# Altium footprint library Seeed-OPL-Connector.PCBLIB: 183 footprints (part 2 of 12)
Each footprint in its own frame and in the unit in brackets; x right, y up, seen from the top. Pads: shape width x height; smd on the part's side, far side on the other; paste and mask are expansions set on the pad; w line width, h text height; cw(c..) or ccw(c..) is an arc to the next point about the centre after c.
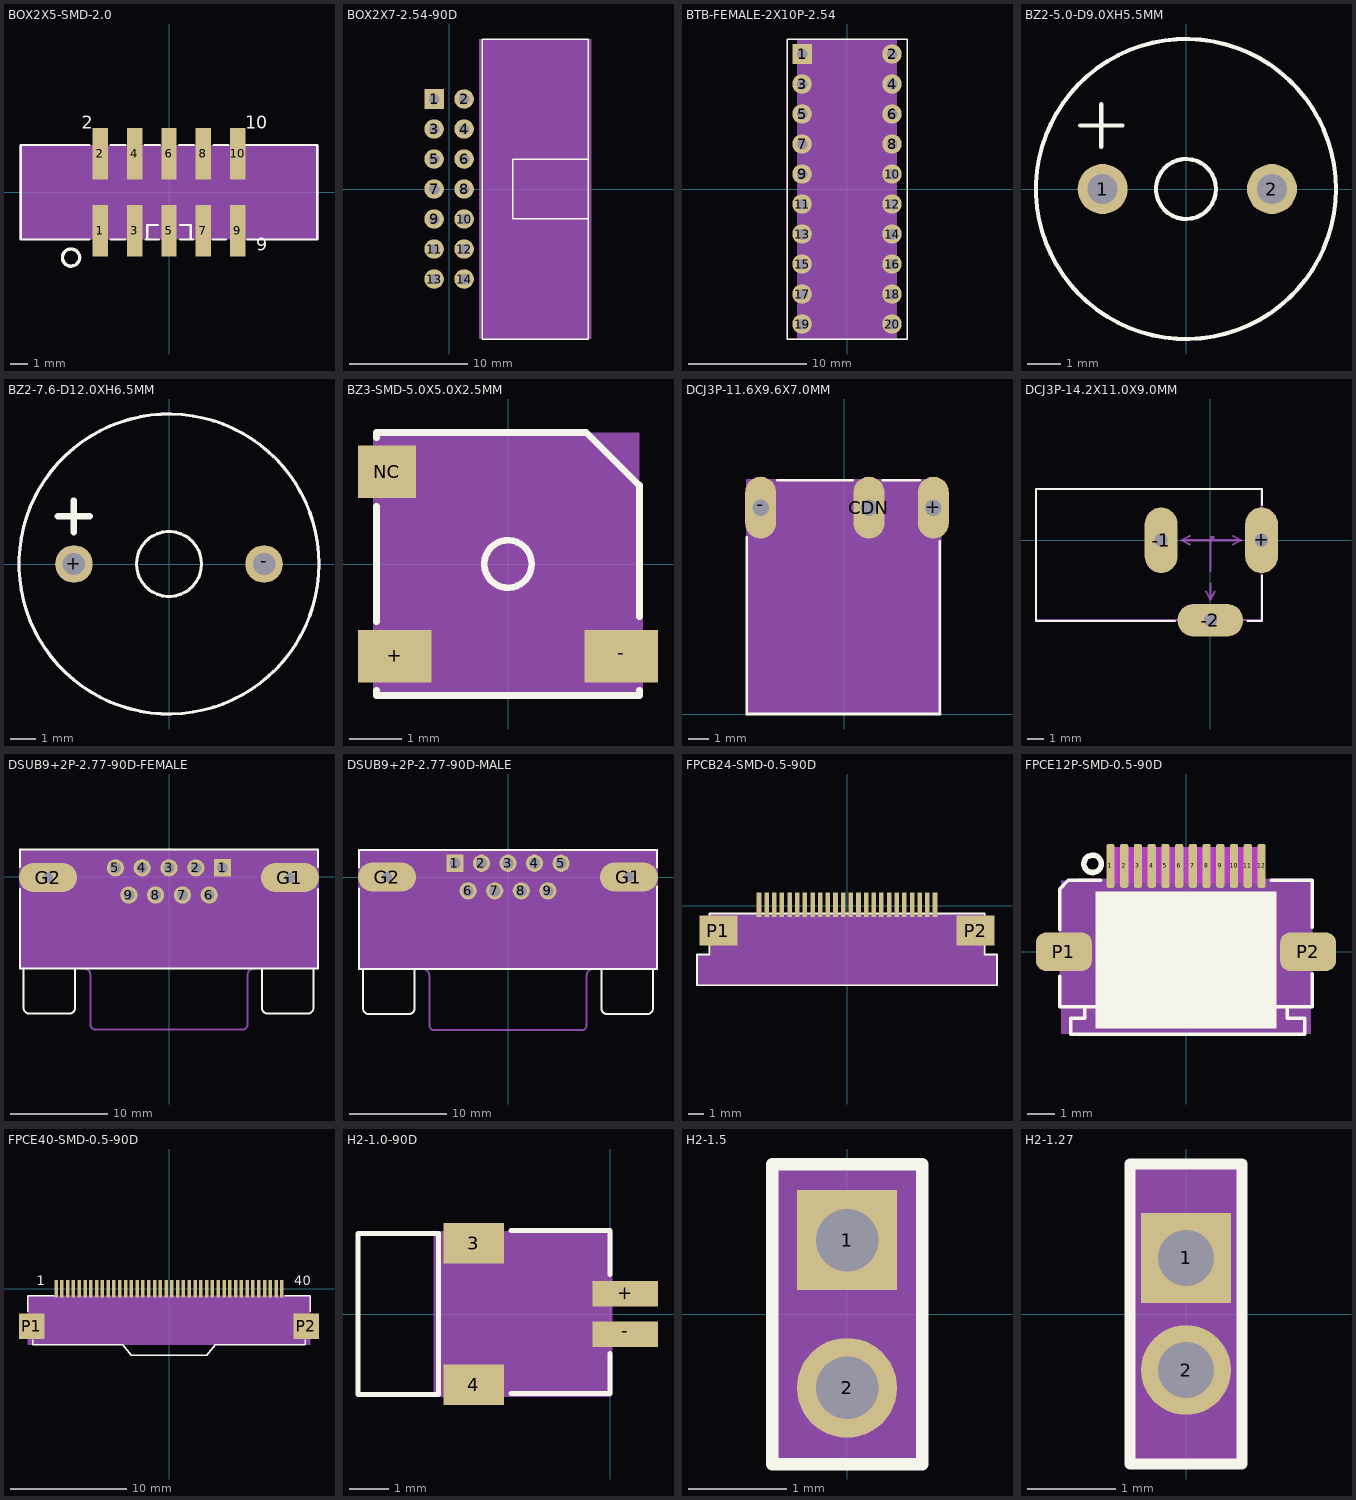
[diagram p1: the footprints below, top view; thin cyan lines are the x and y axes]

## BOX2X5-SMD-2.0 [mm]
pads (10):
  rect 0.9x3 smd: 1(-4,-2.25) 2(-4,2.25) 3(-2,-2.25) 4(-2,2.25) 5(0,-2.25) 6(0,2.25) 7(2,-2.25) 8(2,2.25) 9(4,-2.25) 10(4,2.25)
Top Overlay:
  circle w0.2: c-5.715,-3.81 r0.5
  lines w0.127: -4.645,-2.75 -8.65,-2.75 -8.65,2.75 -4.645,2.75 ; -3.41,-2.75 -2.54,-2.75 ; -3.41,2.75 -2.54,2.75 ; -1.41,2.75 -0.54,2.75 ; -1.36,-2.75 -0.59,-2.75 ; -1.27,-2.75 -1.27,-1.905 -0.635,-1.905 ; 0.59,2.75 1.46,2.75 ; 0.635,-1.905 1.27,-1.905 1.27,-2.75 ; 0.64,-2.75 1.41,-2.75 ; 2.54,-2.75 3.31,-2.75 ; 2.59,2.75 3.46,2.75 ; 4.445,2.75 8.65,2.75 8.65,-2.75 4.545,-2.75
  text "2" at -5.08,3.429 h1.26
  text "9" at 5.08,-3.683 h1.26
  text "10" at 4.445,3.429 h1.26
Mechanical 27:
  rectangle: -8.75,-2.75 8.75,2.75

## BOX2X7-2.54-90D [mil]
pads (14):
  rect 65x65 hole 35: 1(-50,300)
  round 65 hole 35: 2(50,300) 3(-50,200) 4(50,200) 5(-50,100) 6(50,100) 7(-50,0) 8(50,0) 9(-50,-100) 10(50,-100) 11(-50,-200) 12(50,-200) 13(-50,-300) 14(50,-300)
Top Overlay:
  lines w5: 464.57,-98.43 464.57,98.43 ; 464.57,-98.43 464.57,-500 110.24,-500 110.24,500 464.57,500 464.57,98.43 ; 464.57,-98.43 212.6,-98.43 212.6,98.43 464.57,98.43
Mechanical 27:
  rectangle: 100,-500 475,500

## BTB-FEMALE-2X10P-2.54 [mil]
pads (20):
  rect 65x65 hole 35: 1(-150,450)
  round 65 hole 35: 2(150,450) 3(-150,350) 4(150,350) 5(-150,250) 6(150,250) 7(-150,150) 8(150,150) 9(-150,50) 10(150,50) 11(-150,-50) 12(150,-50) 13(-150,-150) 14(150,-150) 15(-150,-250) 16(150,-250) 17(-150,-350) 18(150,-350) 19(-150,-450) 20(150,-450)
Top Overlay:
  lines w5: -200,-500 200,-500 200,500 -200,500 -200,-500
Mechanical 27:
  rectangle: -167.32,-500 167.32,500
  lines w0: -200,-500 200,-500 200,500 -200,500 -200,-500

## BZ2-5.0-D9.0XH5.5MM [mil]
pads (2):
  round 59.06 hole 35.43: 1(-98.43,0) 2(101.57,0)
Top Overlay:
  circle w5: c0,0 r177.17
  circle w5: c0,0 r35.43
  lines w5: -125,75 -75,75 ; -100,50 -100,100

## BZ2-7.6-D12.0XH6.5MM [mil]
pads (2):
  round 59.06 hole 35.43: +(-149.61,0) -(149.61,0)
Top Overlay:
  circle w5: c0,0 r236.22
  circle w5: c0,0 r51.18
  lines w10: -175,75 -150,75 ; -150,50 -150,75 ; -150,100 -150,75 ; -125,75 -150,75
Mechanical 27:
  circle w5: c0,0 r236.22

## BZ3-SMD-5.0X5.0X2.5MM [mm]
pads (3):
  rect 1.4x1 smd: +(-2.15,-1.75) -(2.15,-1.75)
  rect 1.1x1 smd: NC(-2.3,1.75)
Top Overlay:
  circle w0.127: c0,0 r0.45
  lines w0.127: -2.5,-2.4 -2.5,-2.5 2.5,-2.5 2.5,-2.4 ; -2.5,-1.1 -2.5,1.1 ; -2.5,2.4 -2.5,2.5 1.486,2.5 2.5,1.486 ; 2.5,-1 2.5,1.5
Mechanical 16:
  lines w0.127: -2.5,-2.5 -2.5,2.5 ; 2.5,-2.5 2.5,1.486
Mechanical 27:
  region: -2.5,2.5 -2.5,-2.5 2.5,-2.5 2.5,2.5

## DCJ3P-11.6X9.6X7.0MM [mil]
pads (3):
  oval 60x120 hole 32: +(172.5,400) -(-162.5,400) CDN(47.5,400)
Top Overlay:
  lines w5: -188.98,0 -188.98,342.52 ; -188.72,0 185.04,0 ; -129.92,452.76 15.75,452.76 ; 74.8,452.76 145.67,452.76 ; 185.04,334.65 185.04,0 ; 185.3,0 185.04,0
Bottom Overlay:
  circle w5: c22.5,525 r26.93
  circle w5: c22.5,525 r7.07
  circle w5: c162.5,525 r29.15
  circle w5: c-157.5,525 r29.15
  circle w5: c22.5,525 r26.93
  circle w5: c22.5,525 r7.07
  circle w5: c162.5,525 r29.15
  circle w5: c-157.5,525 r29.15
  lines w5: -177.5,525 -137.5,525 ; -127.5,525 -37.5,525 ; -52.5,515 -37.5,525 ; -52.5,535 -37.5,525 ; 67.5,515 52.5,525 ; 67.5,535 52.5,525 ; 132.5,525 52.5,525 ; 142.5,525 182.5,525 ; 162.5,505 162.5,545 ; 17.5,525 27.5,525 ; 17.5,525 22.5,520 27.5,525 ; 17.5,525 22.5,530 27.5,525 ; 62.5,485 cw(c22.5,525) 62.5,565 ccw(c22.5,525) 62.5,485
Mechanical 1:
  lines w1: -7.62,133.86 ccw(c0.26,133.86) 0.26,125.98 55.37,125.98 ccw(c55.37,133.86) 63.25,133.86 63.25,188.98 ccw(c55.38,188.97) 55.37,196.85 0.26,196.85 ccw(c0.26,188.97) -7.62,188.98 -7.62,133.86
Mechanical 11:
  region: 0,0 10,0 10,10 0,10
  region: 0,0 10,0 10,10 0,10
  region: 0,0 10,0 10,10 0,10
  region: 0,0 10,0 10,10 0,10
  region: 0,0 10,0 10,10 0,10
  lines w5: -172.5,320 -162.5,340 ; -162.5,285 -162.5,340 ; -152.5,320 -162.5,340 ; 37.5,320 47.5,340 ; 47.5,285 47.5,340 ; 57.5,320 47.5,340 ; 162.5,320 172.5,340 ; 172.5,285 172.5,340 ; 182.5,320 172.5,340
  text "3 Slot drills with copper" at -302.5,250 h49.6
Mechanical 16:
  lines w5: -188.72,0 -188.72,452.76 185.3,452.76 185.3,0
Mechanical 27:
  rectangle: -188.72,0 185.3,452.76

## DCJ3P-14.2X11.0X9.0MM [mil]
pads (3):
  oval 80x160 hole 32: +(125,0) -1(-120,0)
  oval 160x80 hole 32: -2(0,-195)
Top Overlay:
  lines w5: -425.2,-192.91 -425.2,-196.85 -86.61,-196.85 ; -425,-195 -425,125 125,125 ; 90.55,-196.85 125.98,-196.85 125.98,-86.61 ; 125.98,86.61 125.98,125
Bottom Overlay:
  circle w5: c250,-50 r26.93
  circle w5: c250,-50 r7.07
  circle w5: c250,-190 r29.15
  circle w5: c250,130 r29.15
  circle w5: c250,-50 r26.93
  circle w5: c250,-50 r7.07
  circle w5: c250,-190 r29.15
  circle w5: c250,130 r29.15
  lines w5: 230,-190 270,-190 ; 240,-95 250,-80 ; 240,25 250,10 ; 250,-210 250,-170 ; 250,-160 250,-80 ; 250,100 250,10 ; 250,110 250,150 ; 260,-95 250,-80 ; 260,25 250,10 ; 250,-55 250,-45 ; 250,-55 245,-50 250,-45 ; 250,-55 255,-50 250,-45 ; 210,-90 cw(c250,-50) 290,-90 ccw(c250,-50) 210,-90
Mechanical 11:
  region: 0,0 10,0 10,10 0,10
  region: 0,0 10,0 10,10 0,10
  region: 0,0 10,0 10,10 0,10
  lines w5: -50,-10 -70,0 ; -50,10 -70,0 ; -10,-125 0,-145 ; 0,-105 0,-145 ; 0,-75 0,0 ; 10,-125 0,-145 ; 55,-10 75,0 ; 55,10 75,0 ; -70,0 0,0 ; 0,0 75,0
  text "3 Slot Drills with copper" at -375,-100 h37.2
Mechanical 16:
  lines w5: -425,-195 125,-195 125,125
Mechanical 27:
  lines w0: -425,-195 125,-195 125,125 -425,125 -425,-195

## DSUB9+2P-2.77-90D-FEMALE [mil]
pads (11):
  rect 70x70 hole 45: 1(218.11,35.43)
  round 70 hole 45: 2(109.06,35.43) 3(0,35.43) 4(-109.06,35.43) 5(-218.11,35.43) 6(163.58,-75.2) 7(54.53,-75.2) 8(-54.53,-75.2) 9(-163.58,-75.2)
  oval 236.22x118.11 hole 39.37: G1(492.13,-3.94) G2(-492.13,-3.94)
Top Overlay:
  lines w7.87: -606.3,-374.02 -606.3,-51.18 ; -606.3,39.37 -606.3,110.24 ; 606.3,-374.02 606.3,-51.18 ; 606.3,39.37 606.3,110.24
  lines w8: -606.3,-374.02 606.3,-374.02 ; -606.3,110.24 606.3,110.24 ; -591.97,-375 -591.97,-533 ccw(c-566.97,-533) -566.97,-558 -406.97,-558 ccw(c-406.97,-533) -381.97,-533 -381.97,-375 ; 378.03,-375 378.03,-533 ccw(c403.03,-533) 403.03,-558 563.03,-558 ccw(c563.03,-533) 588.03,-533 588.03,-375
Mechanical 11:
  lines w5: -515,-90 -500,-75 ; -485,-90 -500,-75 ; 485,-90 500,-75 ; 515,-90 500,-75 ; -500,-75 -500,-225 500,-225 500,-75
  lines w40: -566.93,-3.94 -417.32,-3.94 ; 417.32,-3.94 566.93,-3.94
  text "slot drills with copper" at -275,-215 h54.25
Mechanical 16:
  lines w8: -606.3,-374.02 -606.3,110.24 ; -345,-374.02 cw(c-346.65,-400.67) -320,-402.32 -320,-602.32 ccw(c-300,-602.32) -300,-622.32 300,-622.32 ccw(c300,-602.32) 320,-602.32 320,-402.32 cw(c346.65,-400.67) 345,-374.02 ; 606.3,-374.02 606.3,110.24
Mechanical 27:
  rectangle: -605,-375 605,110

## DSUB9+2P-2.77-90D-MALE [mil]
pads (11):
  rect 70x70 hole 45: 1(-216,56)
  round 70 hole 45: 2(-108,56) 3(0,56) 4(108,56) 5(216,56) 6(-162,-56) 7(-54,-56) 8(54,-56) 9(162,-56)
  oval 236.22x118.11 hole 39.37: G1(492,0) G2(-492,0)
Top Overlay:
  lines w7.87: -606.3,-374.02 -606.3,-47.24 ; -606.3,39.37 -606.3,110.24 ; 606.3,-374.02 606.3,-39.37 ; 606.3,39.37 606.3,110.24
  lines w8: -606.3,-374.02 606.3,-374.02 ; -606.3,110.24 606.3,110.24 ; -590,-375 -590,-533 ccw(c-565,-533) -565,-558 -405,-558 ccw(c-405,-533) -380,-533 -380,-375 ; 380,-375 380,-533 ccw(c405,-533) 405,-558 565,-558 ccw(c565,-533) 590,-533 590,-375
Mechanical 11:
  lines w5: -505,-85 -490,-70 ; -475,-85 -490,-70 ; 475,-85 490,-70 ; 505,-85 490,-70 ; -490,-70 -490,-275 490,-275 490,-70
  lines w40: -566.8,0 -417.2,0 ; 417.2,0 566.8,0
  text "slot drills with copper" at -300,-260 h54.25
Mechanical 16:
  lines w8: -606.3,-374.02 -606.3,110.24 ; -345,-374.02 cw(c-346.65,-400.67) -320,-402.32 -320,-602.32 ccw(c-300,-602.32) -300,-622.32 300,-622.32 ccw(c300,-602.32) 320,-602.32 320,-402.32 cw(c346.65,-400.67) 345,-374.02 ; 606.3,-374.02 606.3,110.24
Mechanical 27:
  rectangle: -605,-375 605,110

## FPCB24-SMD-0.5-90D [mil]
pads (26):
  rect 11.81x62.99 smd: 1(-226.38,1.97) 2(-206.69,1.97) 3(-187.01,1.97) 4(-167.32,1.97) 5(-147.64,1.97) 6(-127.95,1.97) 7(-108.27,1.97) 8(-88.58,1.97) 9(-68.9,1.97) 10(-49.21,1.97) 11(-29.53,1.97) 12(-9.84,1.97) 13(9.84,1.97) 14(29.53,1.97) 15(49.21,1.97) 16(68.9,1.97) 17(88.58,1.97) 18(108.27,1.97) 19(127.95,1.97) 20(147.64,1.97) 21(167.32,1.97) 22(187.01,1.97) 23(206.69,1.97) 24(226.38,1.97)
  rect 98.43x76.77 smd: P1(-330.71,-63.98) P2(330.71,-63.98)
Top Overlay:
  lines w5: -385.83,-204.72 385.83,-204.72 385.83,-125.98 353.15,-125.98 353.15,-19.69 -353.15,-19.69 -353.15,-125.98 -385.83,-125.98 -385.83,-204.72
Mechanical 27:
  rectangle: -350,-125 350,-20
  rectangle: -385,-205 385,-125

## FPCE12P-SMD-0.5-90D [mil]
pads (14):
  rrect50% 11.81x62.99 smd: 1(-108.27,123.11) 2(-88.58,123.11) 3(-68.9,123.11) 4(-49.21,123.11) 5(-29.53,123.11) 6(-9.84,123.11) 7(9.84,123.11) 8(29.53,123.11) 9(49.21,123.11) 10(68.9,123.11) 11(88.58,123.11) 12(108.27,123.11)
  rrect50% 80x55 smd: P1(-175,0) P2(175,0)
Top Overlay:
  circle w7.87: c-133.86,125.98 r12.45
  rectangle: -129.92,-110 129.92,86.61
  lines w5: -181.1,-35.43 -181.1,-78.74 181.1,-78.74 181.1,-31.5 ; -181.1,31.5 -181.1,89.91 -168.65,102.36 -153.54,102.36 -149.61,102.36 -122.05,102.36 ; -165,-118.11 -165,-95 -145,-95 -145,-80 ; -164.13,-118.11 169.13,-118.11 ; 122.05,102.36 181.1,102.36 181.1,35.43 ; 145,-80 145,-95 170,-95 170,-118.11
Mechanical 8 keep-out:
  rectangle: -112.5,97.5 112.5,150
Mechanical 16:
  lines w5: -179.13,-78.74 -179.13,76.53 ; -153.3,102.36 179.13,102.36 179.13,-78.74
Mechanical 27:
  rectangle: -179.13,-118.11 179.13,102.36

## FPCE40-SMD-0.5-90D [mil]
pads (42):
  rect 12x60 smd: 1(-383.86,0) 2(-364.17,0) 3(-344.49,0) 4(-324.8,0) 5(-305.12,0) 6(-285.43,0) 7(-265.75,0) 8(-246.06,0) 9(-226.38,0) 10(-206.69,0) 11(-187.01,0) 12(-167.32,0) 13(-147.64,0) 14(-127.95,0) 15(-108.27,0) 16(-88.58,0) 17(-68.9,0) 18(-49.21,0) 19(-29.53,0) 20(-9.84,0) 21(9.84,0) 22(29.53,0) 23(49.21,0) 24(68.9,0) 25(88.58,0) 26(108.27,0) 27(127.95,0) 28(147.64,0) 29(167.32,0) 30(187.01,0) 31(206.69,0) 32(226.38,0) 33(246.06,0) 34(265.75,0) 35(285.43,0) 36(305.12,0) 37(324.8,0) 38(344.49,0) 39(364.17,0) 40(383.86,0)
  rect 86.61x86.61 smd: P1(-466.54,-127.95) P2(466.54,-127.95)
Top Overlay:
  lines w5: -480.32,-78.74 -480.32,-25.59 ; -480.32,-23.62 -389.76,-23.62 ; -462.6,-173.23 -462.6,-190.94 -157.48,-190.94 -127.95,-226.38 127.95,-226.38 157.48,-190.94 462.6,-190.94 462.6,-173.23 ; 393.7,-23.62 480.32,-23.62 ; 480.32,-78.74 480.32,-25.59
  text "1" at -450,0 h54.25
  text "40" at 425,0 h54.25
Mechanical 16:
  lines w5: -480.32,-155.51 -433.07,-155.51 -433.07,-167.32 -462.6,-167.32 ; -480.32,-25.59 480.32,-25.59 ; 462.6,-167.32 433.07,-167.32 433.07,-155.51 480.32,-155.51
Mechanical 27:
  rectangle: -480.32,-190.94 480.32,-25.59

## H2-1.0-90D [mil]
pads (4):
  rect 60x40 smd: 3(-135,70) 4(-135,-70)
  rect 65x25 smd: +(15,20) -(15,-20)
Top Overlay:
  lines w5: -98.43,-78.74 0,-78.74 0,-39.37 ; -98.43,82.68 0,82.68 0,39.37 ; -250,-80 -250,80 -170,80 -170,-80 -250,-80
Mechanical 16:
  lines w5: -170,-80 0,-80 0,80 -170,80
Mechanical 27:
  rectangle: -175,-80 0,80

## H2-1.5 [mil]
pads (2):
  rect 40x40 hole 25: 1(0,29.53)
  round 40 hole 25: 2(0,-29.53)
Top Overlay:
  lines w5: -30,-60 30,-60 30,60 -30,60 -30,-60
Mechanical 27:
  rectangle: -30,-60 30,60

## H2-1.27 [mil]
pads (2):
  rect 40x40 hole 25: 1(0,25)
  round 40 hole 25: 2(0,-25)
Top Overlay:
  lines w5: -25,-66.93 25,-66.93 25,66.93 -25,66.93 -25,-66.93
Mechanical 27:
  rectangle: -25,-66.93 25,66.93